# Altium footprint library PTV09A-Potentiometer.PcbLib: 1 footprints
Each footprint in its own frame and in the unit in brackets; x right, y up, seen from the top. Pads: shape width x height; smd on the part's side, far side on the other; paste and mask are expansions set on the pad; w line width, h text height; cw(c..) or ccw(c..) is an arc to the next point about the centre after c.
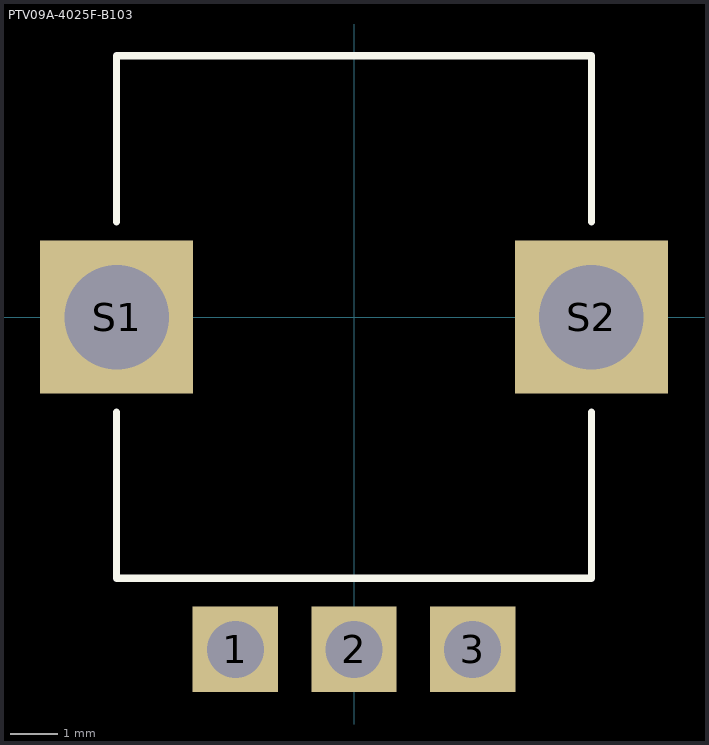
[diagram p0: the footprint, top view; thin cyan lines are the x and y axes]

## PTV09A-4025F-B103 [mm]
pads (5):
  rect 1.8x1.8 / inner round 1.8 / far side rect 1.8x1.8 hole 1.2: 1(-2.5,-7) 2(0,-7) 3(2.5,-7)
  rect 3.216x3.216 / inner round 3.216 / far side rect 3.216x3.216 hole 2.2: S1(-5,0) S2(5,0)
Top Overlay:
  lines w0.152: -5,-2 -5,-5.5 5,-5.5 5,-2 ; -5,2 -5,5.5 5,5.5 5,2
3D body "step_temp.STEP": height 25.5, standoff -3.8, extent -5.697,-7.15 5.7,5.5